# Altium schematic symbol library CONN_HDR_8X1.SchLib: 1 symbol
Pins are listed as number, name and electrical type; pins without a type are passive.

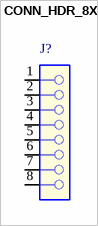
[diagram p0: symbol CONN_HDR_8X1]

## CONN_HDR_8X1
designator J?
CON 1X8 SKT TH 100MIL SP 344H AU 118L
pins: 1, 2, 3, 4, 5, 6, 7, 8